# EAGLE library part USB-A (library chinese-con)
USB Type A connectors.
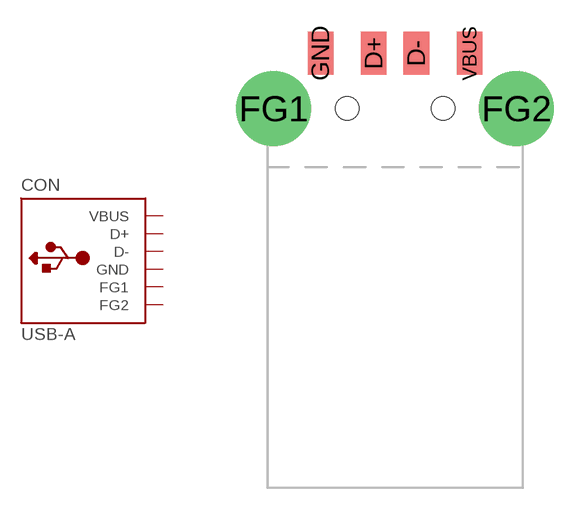
[diagram p0: symbol with the pads of USB_A_MALE; footprint USB_A_MALE]

Designator prefix CON

## USB-A-SMT  [USB_A_MALE]
D+  D+
D-  D-
FG1  FG1  pwr
FG2  FG2  pwr
GND  GND  pwr
VBUS  VBUS  pwr

## Footprint USB_A_MALE (pad centres in mm)
The short-dash line means recommended "edge of PCB".
smd 1.2 x 2: D+ -1,10.22; D- 1,10.22; GND -3.5,10.22; VBUS 3.5,10.22
drill 2.5 round: FG1 -5.7,7.62; FG2 5.7,7.62
hole 1.1 at -2.25,7.62
hole 1.1 at 2.25,7.62